# EAGLE library part LORA-02 (library LORA-02)
MODULO LORA-02
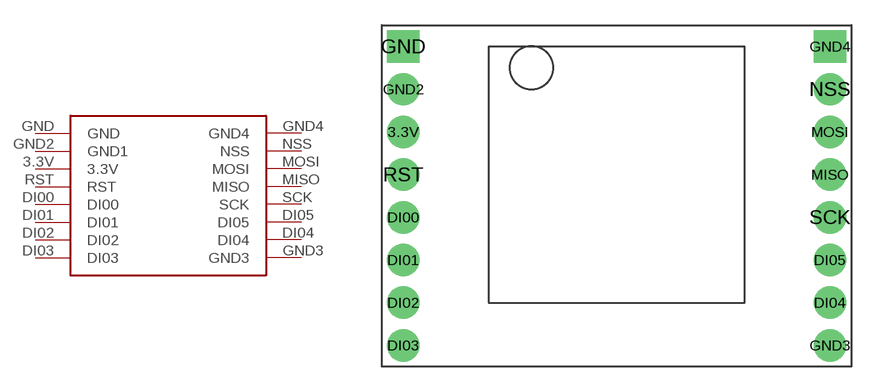
[diagram p0: symbol with the pads of DIL8X11; footprint DIL8X11]

Designator prefix -

## LORA-02DIL  [DIL8X11]
3.3V  3.3V  pwr
DI00  DI00
DI01  DI01
DI02  DI02
DI03  DI03
DI04  DI04
DI05  DI05
GND  GND  pwr
GND2  GND1  pwr
GND3  GND3  pwr
GND4  GND4  pwr
MISO  MISO  in
MOSI  MOSI  out
NSS  NSS  in
RST  RST  in
SCK  SCK  oc

## Footprint DIL8X11 (pad centres in mm)
drill 0.8 pad 1.93: 3.3V 0,-5.08; DI00 0,-10.16; DI01 0,-12.7; DI02 0,-15.24; DI03 0,-17.78; DI04 25.4,-15.24; DI05 25.4,-12.7; GND2 0,-2.54; GND3 25.4,-17.78; MISO 25.4,-7.62; MOSI 25.4,-5.08; NSS 25.4,-2.54; RST 0,-7.62; SCK 25.4,-10.16
drill 0.8 pad 1.93 square: GND 0,0; GND4 25.4,0